# Altium schematic symbol library USSR.SchLib: 1 symbol
Pins are listed as number, name and electrical type; pins without a type are passive.

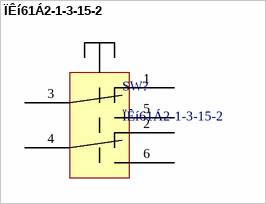
[diagram p0: symbol ÏÊí61Á2-1-3-15-2]

## ÏÊí61Á2-1-3-15-2
designator SW?
footprint ÏÊÍ61Á2-1-3-15-2
pins: 1, 2, 3, 4, 5, 6